# Altium footprint library PCB - LEADED - DPAK - INFINEON PG-TO 252 GDS FET.PcbLib: 1 footprints
Each footprint in its own frame and in the unit in brackets; x right, y up, seen from the top. Pads: shape width x height; smd on the part's side, far side on the other; paste and mask are expansions set on the pad; w line width, h text height; cw(c..) or ccw(c..) is an arc to the next point about the centre after c.
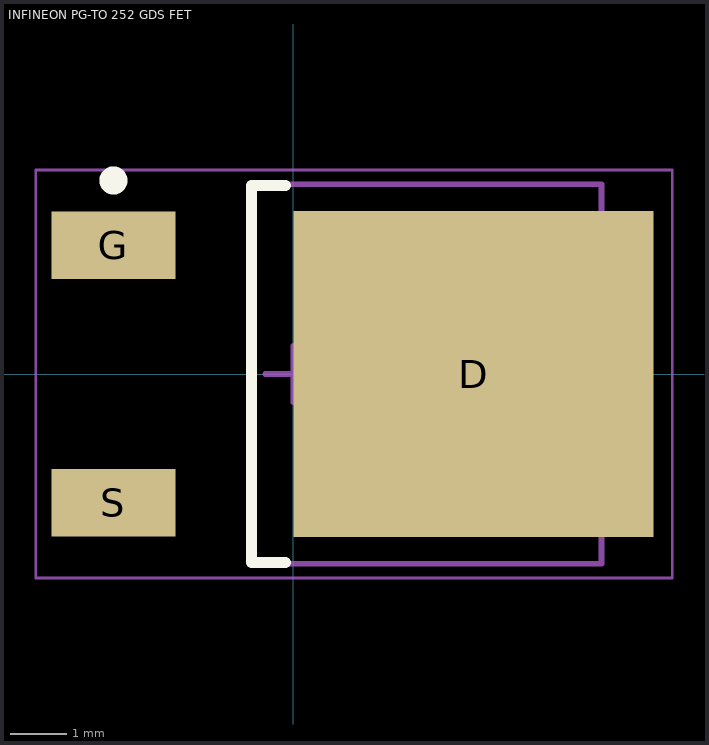
[diagram p0: the footprint, top view; thin cyan lines are the x and y axes]

## INFINEON PG-TO 252 GDS FET [mm] "DPAK, Body 9.94x6.56mm"
height 2.41
pads (3):
  rect 6.4x5.8 smd: D(3.2,0)
  rect 2.2x1.2 smd: G(-3.2,2.29) S(-3.2,-2.29)
Top Overlay:
  circle w0.25: c-3.2,3.44 r0.125
  lines w0.2: -0.146,-3.35 -0.746,-3.35 -0.746,3.35 -0.146,3.35
Mechanical 13:
  lines w0.1: -0.746,-3.375 -0.746,3.375 5.474,3.375 5.474,-3.375 -0.746,-3.375
Mechanical 15:
  lines w0.05: -4.58,-3.625 -4.58,3.625 6.731,3.625 6.731,-3.625 -4.58,-3.625
  lines w0.1: -0.5,0 0.5,0 ; 0,-0.5 0,0.5
3D body "INFINEON PG-TO 252 GDS FET.step": height 2.41, standoff 0, extent -3.959,-3.375 5.981,3.375